# Altium footprint library mosfet.PcbLib: 2 footprints
Each footprint in its own frame and in the unit in brackets; x right, y up, seen from the top. Pads: shape width x height; smd on the part's side, far side on the other; paste and mask are expansions set on the pad; w line width, h text height; cw(c..) or ccw(c..) is an arc to the next point about the centre after c.
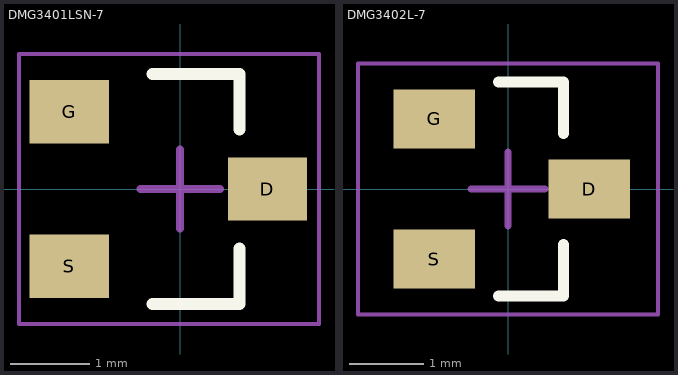
[diagram p0: the footprints below, top view; thin cyan lines are the x and y axes]

## DMG3401LSN-7 [mm]
pads (3):
  rect 1x0.8 smd: D(1.1,0) G(-1.4,0.975) S(-1.4,-0.975)
Top Overlay:
  lines w0.15: -0.35,1.45 0.75,1.45 0.75,0.75 ; 0.75,-1.45 0.75,-0.75
  lines w0.152: -0.35,-1.45 0.75,-1.45
Top Courtyard (Mech15):
  lines w0.05: -2.032,-1.7 -2.032,1.7 1.75,1.7 1.75,-1.7 -2.032,-1.7
  lines w0.1: -0.5,0 0.5,0 ; 0,-0.5 0,0.5
  text ".Designator" at -0.41,0.932 h0.2
3D body "SC-59A.stp": height 1.45, standoff 0, extent -1.675,-1.55 1.325,1.55

## DMG3402L-7 [mm]
pads (3):
  rect 1.1x0.8 smd: D(1.1,0) G(-1,0.95) S(-1,-0.95)
Top Overlay:
  lines w0.15: -0.125,1.45 0.75,1.45 0.75,0.75 ; 0.75,-1.45 0.75,-0.75
  lines w0.152: -0.125,-1.45 0.75,-1.45
Top Courtyard (Mech15):
  lines w0.05: -2.032,-1.7 -2.032,1.7 2.032,1.7 2.032,-1.7 -2.032,-1.7
  lines w0.1: -0.5,0 0.5,0 ; 0,-0.5 0,0.5
  text ".Designator" at -0.435,1.132 h0.2
3D body "SC-59A.stp": height 1.45, standoff 0, extent -1.45,-1.55 1.55,1.55